# EAGLE library part IC_QFX12 (library dp_devices)
Universal Quad Flat Pack/Leadless 12 pins
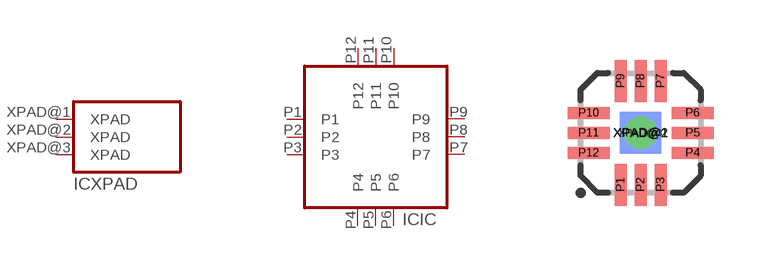
[diagram p136: symbol with the pads of QFN12_3X3; footprint QFN12_3X3]

Designator prefix IC; gates IC=QFX-12 XPAD=QFX-XPAD-3

## IC_QFX12-QFN12_3X3  [QFN12_3X3]
P1  IC:P1  pas
P2  IC:P2  pas
P3  IC:P3  pas
P4  IC:P4  pas
P5  IC:P5  pas
P6  IC:P6  pas
P7  IC:P7  pas
P8  IC:P8  pas
P9  IC:P9  pas
P10  IC:P10  pas
P11  IC:P11  pas
P12  IC:P12  pas
XPAD@1  XPAD:XPAD  pas
XPAD@2  XPAD:XPAD  pas
XPAD@3  XPAD:XPAD  pas

## Footprint QFN12_3X3 (pad centres in mm)
QFN 12 Body: 3 x 3 mm Pitch: 0.50 mm Based on: MAXIM's G1233-1 <http://pdfserv.maximintegrated.com/package_dwgs/21-0102.PDF>
smd 0.3 x 1.05: P1 -0.5,-1.3; P2 0,-1.3; P3 0.5,-1.3; P7 0.5,1.3; P8 0,1.3; P9 -0.5,1.3
smd 1.05 x 0.3: P4 1.3,-0.5; P5 1.3,0; P6 1.3,0.5; P10 -1.3,0.5; P11 -1.3,0; P12 -1.3,-0.5
smd 1.04 x 1.04: XPAD@1 0,0
smd 1.04 x 1.04 bottom: XPAD@2 0,0
drill 0.305 round: XPAD@3 0,0